# Altium footprint library Tactile Switches.PcbLib: 2 footprints
Each footprint in its own frame and in the unit in brackets; x right, y up, seen from the top. Pads: shape width x height; smd on the part's side, far side on the other; paste and mask are expansions set on the pad; w line width, h text height; cw(c..) or ccw(c..) is an arc to the next point about the centre after c.
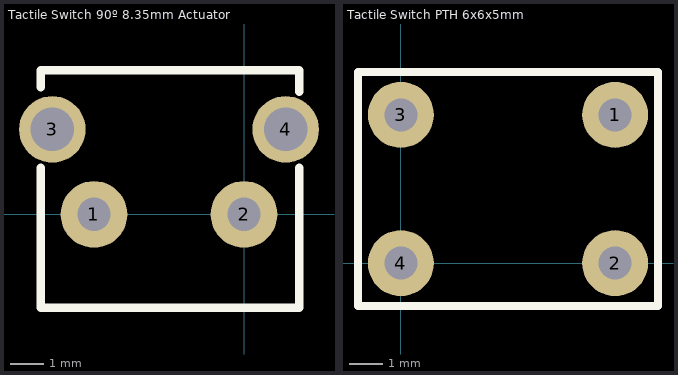
[diagram p0: the footprints below, top view; thin cyan lines are the x and y axes]

## Tactile Switch 90º 8.35mm Actuator [mm] "Tactile Switch SPST-NO Side Actuated Through Hole, Right Angle"
pads (4):
  round 2 hole 1: 1(-4.5,0) 2(0,0)
  round 2 hole 1.3: 3(-5.75,2.55) 4(1.25,2.55)
Top Overlay:
  lines w0.254: -6.096,1.397 -6.096,-2.794 1.651,-2.794 1.651,1.397 ; -6.096,3.81 -6.096,4.318 1.651,4.318 1.651,3.683
3D body "User Library-SWITCH, TACTILE, RIGHT ANGLE, 12VDC, 50MA, 8_35MM ACTUATOR, WEALTH METAL TC-0240Z.step": height 7.01, standoff -3.99, extent -5.9,-8.36 1.5,4.14

## Tactile Switch PTH 6x6x5mm [mm] "Tactile Switch PTH 6x6mm outline/5mm High 0.05A 24V"
pads (4):
  round 2 hole 1: 1(6.5,4.5) 2(6.5,0) 3(0,4.5) 4(0,0)
Top Overlay:
  lines w0.254: -1.3,-1.3 7.8,-1.3 7.8,5.8 -1.3,5.8 -1.3,-1.3
3D body "User Library-Tactile switch 6x6x5mm.step": height 5.01, standoff -3.51, extent -0.635,-0.729 7.108,5.301